# EAGLE library part RASPI_16 (library common)
RasPi narrow, top 16 pins only
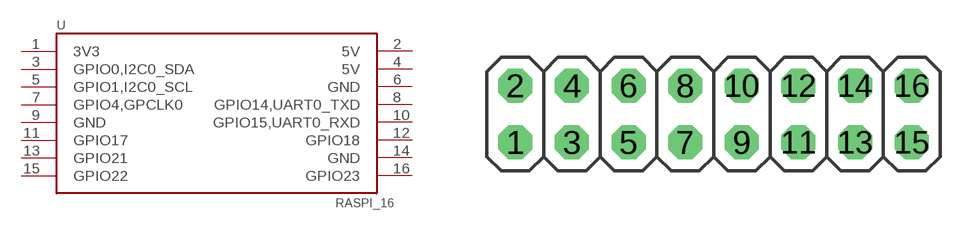
[diagram p12: symbol with the pads of 2X08; footprint 2X08]

Designator prefix -

## RASPI_16  [2X08]
1  3V3
2  5V
3  GPIO0,I2C0_SDA
4  5V
5  GPIO1,I2C0_SCL
6  GND
7  GPIO4,GPCLK0
8  GPIO14,UART0_TXD
9  GND
10  GPIO15,UART0_RXD
11  GPIO17
12  GPIO18
13  GPIO21
14  GND
15  GPIO22
16  GPIO23

## Footprint 2X08 (pad centres in mm)
PIN HEADER
drill 1.016 octagon: 1 -8.89,-1.27; 2 -8.89,1.27; 3 -6.35,-1.27; 4 -6.35,1.27; 5 -3.81,-1.27; 6 -3.81,1.27; 7 -1.27,-1.27; 8 -1.27,1.27; 9 1.27,-1.27; 10 1.27,1.27; 11 3.81,-1.27; 12 3.81,1.27; 13 6.35,-1.27; 14 6.35,1.27; 15 8.89,-1.27; 16 8.89,1.27